# Altium schematic symbol library 68 RESISTORS_THD_AX14_8mm_S.SchLib: 9 symbols
Pins are listed as number, name and electrical type; pins without a type are passive.

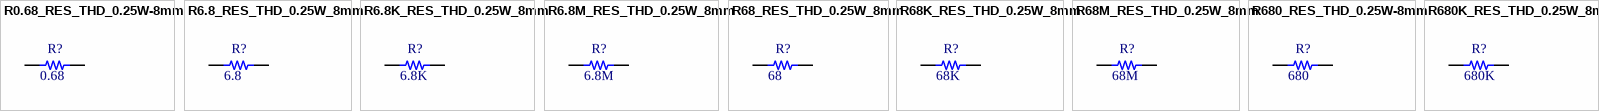
[diagram p0: symbols R0.68_RES_THD_0.25W-8mm to R680K_RES_THD_0.25W_8mm]

## R0.68_RES_THD_0.25W-8mm
designator R?  value 0.68  (hidden comment: *)
RESISTOR_0.68Ohm_THD_0.25W-8mm; Pacakge: THT; Rating: 0.25W; Type: 5%
footprint R0.68_RES_THD_AX14_0.25W (RESISTOR 0.68 Ohm  THD AX14 0.25W Length  8mm)
pins: 1, 2

## R6.8_RES_THD_0.25W_8mm
designator R?  value 6.8  (hidden comment: *)
RESISTOR_6.8Ohm_THD_0.25W-8mm; Pacakge: THT; Rating: 0.25W; Type: 5%
footprint R6.8_RES_THD_AX14_0.25W (RESISTOR 6.8 Ohm  THD AX14 0.25W Length  8mm)
pins: 1, 2

## R6.8K_RES_THD_0.25W_8mm
designator R?  value 6.8K  (hidden comment: *)
RESISTOR_6.8KOhm_THD_0.25W-8mm; Pacakge: THT; Rating: 0.25W; Type: 5%
footprint R6.8K_RES_THD_AX14_0.25W (RESISTOR 6.8K Ohm  THD AX14 0.25W Length  8mm)
pins: 1, 2

## R6.8M_RES_THD_0.25W_8mm
designator R?  value 6.8M  (hidden comment: *)
RESISTOR_6.8MOhm_THD_0.25W-8mm; Pacakge: THT; Rating: 0.25W; Type: 5%
footprint R6.8M_RES_THD_AX14_0.25W (RESISTOR 6.8M Ohm  THD AX14 0.25W Length  8mm)
pins: 1, 2

## R68_RES_THD_0.25W_8mm
designator R?  value 68  (hidden comment: *)
RESISTOR_68Ohm_THD_0.25W-8mm; Pacakge: THT; Rating: 0.25W; Type: 5%; Parameter 1: *
footprint R68_RES_THD_AX14_0.25W (RESISTOR 68 Ohm  THD AX14 0.25W Length  8mm)
pins: 1, 2

## R68K_RES_THD_0.25W_8mm
designator R?  value 68K  (hidden comment: *)
RESISTOR_68KOhm_THD_0.25W-8mm; Pacakge: THT; Rating: 0.25W; Type: 5%
footprint R68K_RES_THD_AX14_0.25W (RESISTOR 68K Ohm  THD AX14 0.25W Length  8mm)
pins: 1, 2

## R68M_RES_THD_0.25W_8mm
designator R?  value 68M  (hidden comment: *)
RESISTOR_68MOhm_THD_0.25W-8mm; Pacakge: THT; Rating: 0.25W; Type: 5%
footprint R68M_RES_THD_AX14_0.25W (RESISTOR 68M Ohm  THD AX14 0.25W Length  8mm)
pins: 1, 2

## R680_RES_THD_0.25W-8mm
designator R?  value 680  (hidden comment: *)
RESISTOR_680Ohm_THD_0.25W-8mm; Pacakge: THT; Rating: 0.25W; Type: 5%; Parameter 1: *
footprint R680_RES_THD_AX14_0.25W (RESISTOR 680 Ohm  THD AX14 0.25W Length  8mm)
pins: 1, 2

## R680K_RES_THD_0.25W_8mm
designator R?  value 680K  (hidden comment: *)
RESISTOR_680KOhm_THD_0.25W-8mm; Pacakge: THT; Rating: 0.25W; Type: 5%
footprint R680K_RES_THD_AX14_0.25W (RESISTOR 680K Ohm  THD AX14 0.25W Length  8mm)
pins: 1, 2